# EAGLE library part HEADER-1X6 (library everykey)
PIN HEADER
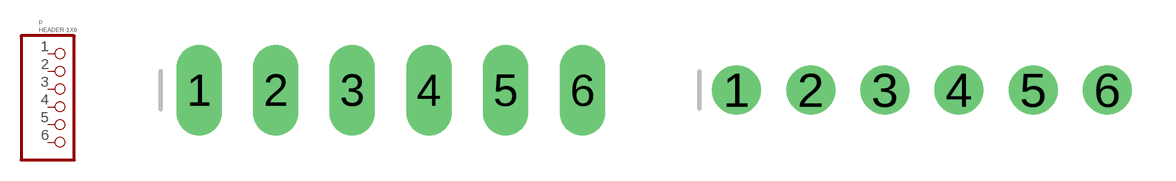
[diagram p2: symbol with the pads of 1X06_OVAL; footprints 1X06_OVAL, 1X06_ROUND]

Designator prefix P

## HEADER-1X6OVAL  [1X06_OVAL]
1  1  pas
2  2  pas
3  3  pas
4  4  pas
5  5  pas
6  6  pas

## HEADER-1X6ROUND  [1X06_ROUND]
Pads as for 1X06_OVAL

## HEADER-1X6SMT  [1X06_SMT]
Pads as for 1X06_OVAL

## HEADER-1X6AVX_5_SPRING+PAD  [AVX_00915500500X01X]
1  1  pas
2  2  pas
3  3  pas
4  4  pas
5  5  pas
BRACKET  6  pas

## HEADER-1X6AVX_5_SPRING+PAD_EXT  [AVX_00915500500X01X-EXT]
Pads as for AVX_00915500500X01X

## HEADER-1X6WR-WTB  [WUERTH-WR-WTB-6-2-HORIZ-THT]
Pads as for 1X06_OVAL

## HEADER-1X6-DIN5+HOLD  [CUI_SDS50J]
1  1  pas
2  2  pas
3  3  pas
4  4  pas
5  5  pas
HOLD1  6  pas
HOLD2  6  pas
SHIELD1  6  pas
SHIELD2  6  pas

## Footprint 1X06_OVAL (pad centres in mm)
PIN HEADER
drill 1 long: 1 -6.35,0; 2 -3.81,0; 3 -1.27,0; 4 1.27,0; 5 3.81,0; 6 6.35,0

## Footprint 1X06_ROUND (pad centres in mm)
PIN HEADER
drill 1 pad 1.676: 1 -6.35,0; 2 -3.81,0; 3 -1.27,0; 4 1.27,0; 5 3.81,0; 6 6.35,0

## Footprint 1X06_SMT (pad centres in mm)
Pin Headers 6 Pin, 0.1"/2.54mm pitch, SMT
smd 1 x 3.5: 1 -6.35,1.27; 2 -3.81,-1.27; 3 -1.27,1.27; 4 1.27,-1.27; 5 3.81,1.27; 6 6.35,-1.27

## Footprint AVX_00915500500X01X (pad centres in mm)
AVX spring loaded connector, 5 spring pins + mechanical pad (isolated from contacts)
smd 1.5 x 1.5: 1 -5,-3.65; 2 -2.5,-3.65; 3 0,-3.65; 4 2.5,-3.65; 5 5,-3.65
smd 3.6 x 3.95: BRACKET 0,3.65

## Footprint AVX_00915500500X01X-EXT (pad centres in mm)
AVX spring loaded connector, 5 spring pins + mechanical pad (isolated from contacts). Extended mechanical pad for manual soldering.
smd 1.5 x 1.5: 1 -5,-3.65; 2 -2.5,-3.65; 3 0,-3.65; 4 2.5,-3.65; 5 5,-3.65
smd 3.6 x 5.05: BRACKET 0,4.2

## Footprint WUERTH-WR-WTB-6-2-HORIZ-THT (pad centres in mm)
Würth WR-WTB connector, 6 pin THT, horizontal outline. PN: 620 006 117 22
drill 0.8 pad 1.3: 1 -5,0; 2 -3,0; 3 -1,0; 4 1,0; 5 3,0; 6 5,0

## Footprint CUI_SDS50J (pad centres in mm)
5 pin DIN connector, through hole, right angle
drill 1.3: 1 7.5,5; 2 0,5; 3 -7.5,5; 4 5,7.5; 5 -5,7.5; SHIELD1 -2.5,-5; SHIELD2 2.5,-5
drill 2.4: HOLD1 -7.5,0; HOLD2 7.5,0